# EAGLE library part TDF8555J (library Audio-Power-amlifier V.2.0)
The TDF8555J is one of a new generation of complementary quad Bridge-Tied Load (BTL) audio power amplifiers with full I2C-bus controlled diagnostics, multiple voltage regulator and two power switches intended for automotive applications. The TDF8555J can operate at a battery voltage as low as 6 V making this amplifier suitable for stop/start-car operation. The amplifier uses a complementary DMOS output stage in a Silicon-On-Insulator (SOI)-based BCD process. The DMOS output stage ensures a high power output signal with perfect sound quality. The SOI-based BCD process ensures a robust amplifier, where latch-up cannot occur, with good separation between the four independent channels with every component isolated and without substrate currents.
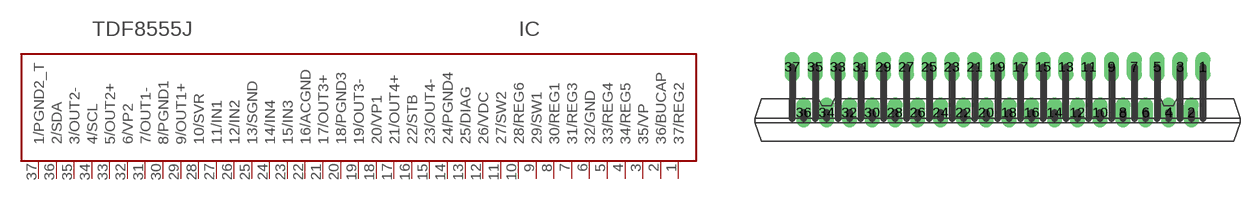
[diagram p147: symbol with the pads of SOT725-1; footprint SOT725-1]

Designator prefix IC

## TDF8555J  [SOT725-1]
1  37/REG2  out
2  36/BUCAP
3  35/VP  pwr
4  34/REG5  out
5  33/REG4  out
6  32/GND  pwr
7  31/REG3  out
8  30/REG1  out
9  29/SW1  out
10  28/REG6  out
11  27/SW2  out
12  26/VDC  pwr
13  25/DIAG  out
14  24/PGND4  pwr
15  23/OUT4-  out
16  22/STB  in
17  21/OUT4+  out
18  20/VP1  pwr
19  19/OUT3-  out
20  18/PGND3  pwr
21  17/OUT3+  out
22  16/ACGND  pwr
23  15/IN3  in
24  14/IN4  in
25  13/SGND  pwr
26  12/IN2  in
27  11/IN1  in
28  10/SVR
29  9/OUT1+  out
30  8/PGND1  pwr
31  7/OUT1-  out
32  6/VP2  pwr
33  5/OUT2+  out
34  4/SCL  in
35  3/OUT2-  out
36  2/SDA
37  1/PGND2_T  pwr

## Footprint SOT725-1 (pad centres in mm)
drill 0.8 long: 1 18,4; 2 17,0; 3 16,4; 4 15,0; 5 14,4; 6 13,0; 7 12,4; 8 11,0; 9 10,4; 10 9,0; 11 8,4; 12 7,0; 13 6,4; 14 5,0; 15 4,4; 16 3,0; 17 2,4; 18 1,0; 19 0,4; 20 -1,0; 21 -2,4; 22 -3,0; 23 -4,4; 24 -5,0; 25 -6,4; 26 -7,0; 27 -8,4; 28 -9,0; 29 -10,4; 30 -11,0; 31 -12,4; 32 -13,0; 33 -14,4; 34 -15,0; 35 -16,4; 36 -17,0; 37 -18,4